# Altium footprint library M95_QUECTEL.PcbLib: 1 footprints
Each footprint in its own frame and in the unit in brackets; x right, y up, seen from the top. Pads: shape width x height; smd on the part's side, far side on the other; paste and mask are expansions set on the pad; w line width, h text height; cw(c..) or ccw(c..) is an arc to the next point about the centre after c.
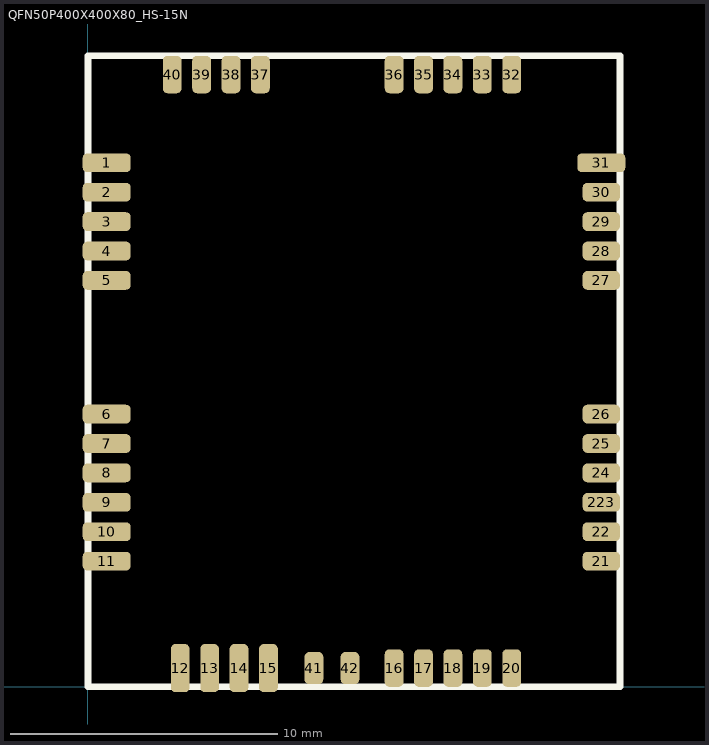
[diagram p0: the footprint, top view; thin cyan lines are the x and y axes]

## QFN50P400X400X80_HS-15N [mm] "QFN, 14-Leads, Body 4.00x4.00mm, Pitch 0.50mm, Thermal Pad 4.00x2.20mm, IPC Medium Density"
height 0.8
pads (42):
  rrect50% 1.8x0.7 smd: 1(0.7,19.6) 2(0.7,18.5) 3(0.7,17.4) 4(0.7,16.3) 5(0.7,15.2) 6(0.7,10.2) 7(0.7,9.1) 8(0.7,8) 9(0.7,6.9) 10(0.7,5.8) 11(0.7,4.7) 31(19.2,19.6)
  rrect50% 0.7x1.8 smd: 12(3.45,0.7) 13(4.55,0.7) 14(5.65,0.7) 15(6.75,0.7)
  rrect50% 0.7x1.4 smd: 16(11.45,0.7) 17(12.55,0.7) 18(13.65,0.7) 19(14.75,0.7) 20(15.85,0.7) 32(15.85,22.9) 33(14.75,22.9) 34(13.65,22.9) 35(12.55,22.9) 36(11.45,22.9) 37(6.45,22.9) 38(5.35,22.9) 39(4.25,22.9) 40(3.15,22.9)
  rrect50% 1.4x0.7 smd: 21(19.2,4.7) 22(19.2,5.8) 24(19.2,8) 25(19.2,9.1) 26(19.2,10.2) 27(19.2,15.2) 28(19.2,16.3) 29(19.2,17.4) 30(19.2,18.5) 223(19.2,6.9)
  rrect50% 0.7x1.2 smd: 41(8.45,0.7) 42(9.8,0.7)
Top Overlay:
  lines w0.254: 0,0 19.9,0 19.9,23.6 0,23.6 0,0